# Altium schematic symbol library probe.SchLib: 4 symbols
Pins are listed as number, name and electrical type; pins without a type are passive.

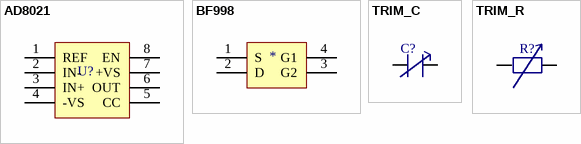
[diagram p0: symbols AD8021 to TRIM_R]

## AD8021
designator U?  (value not drawn)
footprint SO8
pins: 1 REF, 2 IN-, 3 IN+, 4 -VS, 5 CC, 6 OUT, 7 +VS, 8 EN

## BF998
designator *  (value not drawn)
footprint SOT143
pins: 1 S, 2 D, 3 G2, 4 G1

## TRIM_C
designator C?, comment TZY2R200AC01R00  (value not drawn)
footprint TRIM_C
pins: 1, 2

## TRIM_R
designator R?, comment VG039NCHXTB501  (value not drawn)
pins: 1, 1